# EAGLE library part SLR-429M (library lz-shield)
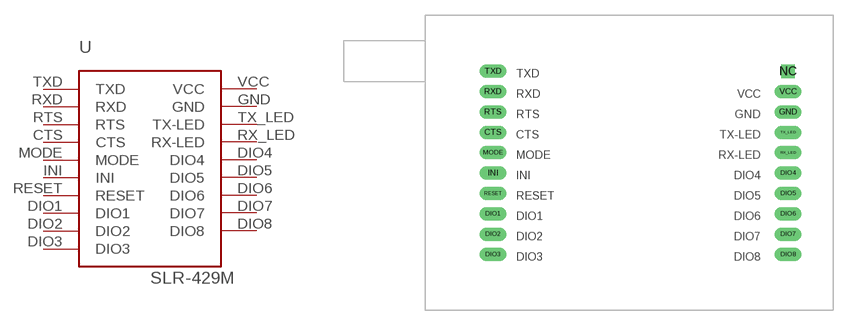
[diagram p8: symbol with the pads of SLR-429M; footprint SLR-429M]

Designator prefix -

## SLR-429M  [SLR-429M]
CTS  CTS  in
DIO1  DIO1
DIO2  DIO2
DIO3  DIO3
DIO4  DIO4
DIO5  DIO5
DIO6  DIO6
DIO7  DIO7
DIO8  DIO8
GND  GND  pwr
INI  INI  in
MODE  MODE  in
RESET  RESET  in
RTS  RTS  out
RX_LED  RX-LED  out
RXD  RXD  in
TX_LED  TX-LED  out
TXD  TXD  out
VCC  VCC  pwr

## Footprint SLR-429M (pad centres in mm)
drill 0.8 long: CTS -13.37,3; DIO1 -13.37,-5; DIO2 -13.37,-7; DIO3 -13.37,-9; DIO4 15.58,-1; DIO5 15.58,-3; DIO6 15.58,-5; DIO7 15.58,-7; DIO8 15.58,-9; GND 15.58,5; INI -13.37,-1; MODE -13.37,1; RESET -13.37,-3; RTS -13.37,5; RX_LED 15.58,1; RXD -13.37,7; TX_LED 15.58,3; TXD -13.37,9; VCC 15.58,7
drill 0.8 square: NC 15.58,9